# Altium schematic symbol library SOD-123 B5819W  SL.Schlib: 1 symbol
Pins are listed as number, name and electrical type; pins without a type are passive.

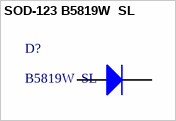
[diagram p0: symbol SOD-123 B5819W  SL]

## SOD-123 B5819W  SL
designator D?, comment B5819W  SL
肖特基二极管
footprint SOD-123
pins: 1 A, 2 K